# Altium schematic symbol library LGU1V682MELA.SchLib: 2 symbols
Pins are listed as number, name and electrical type; pins without a type are passive.

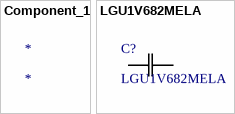
[diagram p0: symbols Component_1 to LGU1V682MELA]

## Component_1
designator *

## LGU1V682MELA
designator C?
No Description Available; Mfr_Name: Nichicon; Type: DEV; Copyright: Copyright (C) 2022 Ultra Librarian. All rights reserved.; Manufacturer_Part_Number: LGU1V682MELA; RefDes: RefDes
footprint CAP_A35_NCH
pins: 1, 2